# EAGLE library part HDR-1X6 (library Mechanical)
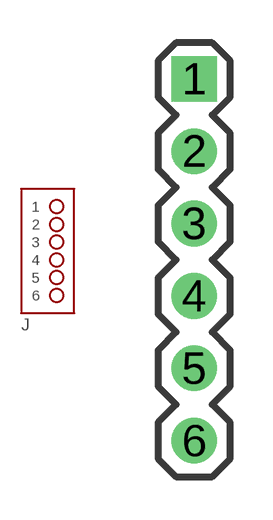
[diagram p2: symbol with the pads of HDR-1X6; footprint HDR-1X6]

Designator prefix J

## HDR-1X6  [HDR-1X6]
1  1  pas
2  2  pas
3  3  pas
4  4  pas
5  5  pas
6  6  pas

## Footprint HDR-1X6 (pad centres in mm)
drill 1.067 square: 1 0,6.35
drill 1.067: 2 0,3.81; 3 0,1.27; 4 0,-1.27; 5 0,-3.81; 6 0,-6.35